# EAGLE library part DAC8565 (library joakim)
Texas Instruments DAC8565 4 channel 16 bit DAC, SPI 50MHz SPI @ 5v 25MHz SPI @ 3.3v Connect AVdd to IOVdd
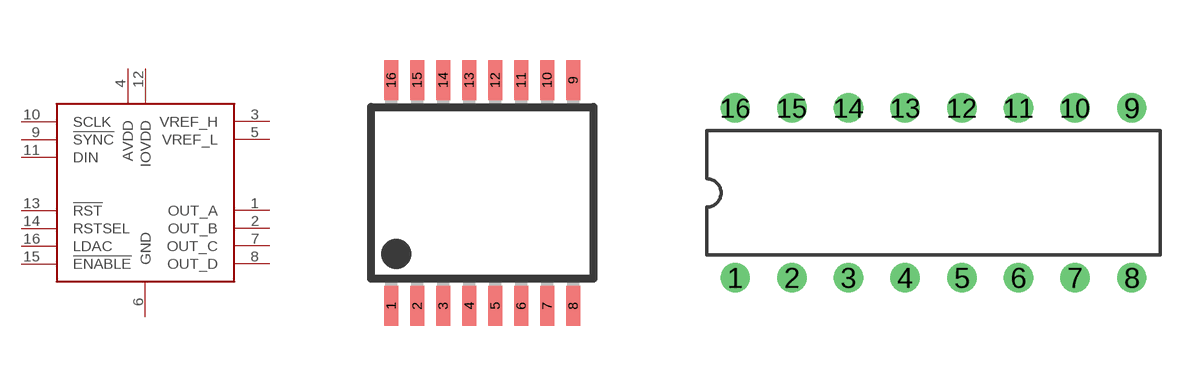
[diagram p78: symbol with the pads of TSSOP16J; footprints TSSOP16J, DIL16J]

Designator prefix IC

## DAC8565  [TSSOP16J]
1  OUT_A
2  OUT_B
3  VREF_H
4  AVDD  pwr
5  VREF_L
6  GND
7  OUT_C
8  OUT_D
9  !SYNC
10  SCLK
11  DIN
12  IOVDD  pwr
13  !RST
14  RSTSEL
15  !ENABLE
16  LDAC

## DAC8565D  [DIL16J]
Pads as for TSSOP16J

## DAC8565F  [DIL16-FM-CON]
Pads as for TSSOP16J

## Footprint TSSOP16J (pad centres in mm)
16-Lead Plastic Thin Shrink Small Outline (ST) - 4.4 mm Body TSSOP Source: http://ww1.microchip.com/downloads/en/DeviceDoc/40039E.pdf
smd 0.35 x 1: 1 -2.268,-2.825; 2 -1.617,-2.825; 3 -0.968,-2.825; 4 -0.318,-2.825; 5 0.333,-2.825; 6 0.983,-2.825; 7 1.633,-2.825; 8 2.283,-2.825; 9 2.283,2.825; 10 1.633,2.825; 11 0.983,2.825; 12 0.333,2.825; 13 -0.318,2.825; 14 -0.968,2.825; 15 -1.617,2.825; 16 -2.268,2.825

## Footprint DIL16J (pad centres in mm)
Dual In Line 16
drill 0.813: 1 -8.89,-3.81; 2 -6.35,-3.81; 3 -3.81,-3.81; 4 -1.27,-3.81; 5 1.27,-3.81; 6 3.81,-3.81; 7 6.35,-3.81; 8 8.89,-3.81; 9 8.89,3.81; 10 6.35,3.81; 11 3.81,3.81; 12 1.27,3.81; 13 -1.27,3.81; 14 -3.81,3.81; 15 -6.35,3.81; 16 -8.89,3.81

## Footprint DIL16-FM-CON (pad centres in mm)
Dual In Line 16
drill 1.016: 1 -8.89,-3.81; 2 -6.35,-3.81; 3 -3.81,-3.81; 4 -1.27,-3.81; 5 1.27,-3.81; 6 3.81,-3.81; 7 6.35,-3.81; 8 8.89,-3.81; 9 8.89,3.81; 10 6.35,3.81; 11 3.81,3.81; 12 1.27,3.81; 13 -1.27,3.81; 14 -3.81,3.81; 15 -6.35,3.81; 16 -8.89,3.81